# EAGLE library part DAC7541A (library EW_IC-ADC-DAC)
Low Cost 12-Bit CMOS DAC Four-Quadrant Multiplying
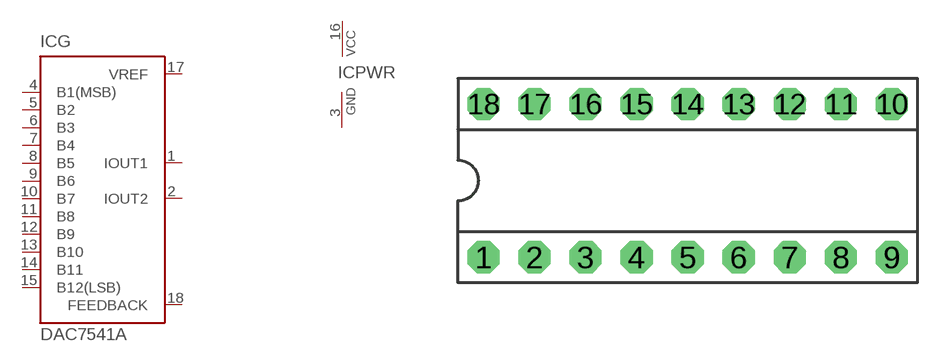
[diagram p72: symbol with the pads of DIL18; footprint DIL18]

Designator prefix IC; gates PWR=PWRN-1 G=DAC7541A

## DAC7541AP (MF: TEXAS INSTRUMENTS; MPN: DAC7541AJP; OC_FARNELL: 1212269; OC_NEWARK: 96K4483)  [DIL18]
1  G:IOUT1  out
2  G:IOUT2  out
3  PWR:GND  pwr
4  G:B1(MSB)  in
5  G:B2  in
6  G:B3  in
7  G:B4  in
8  G:B5  in
9  G:B6  in
10  G:B7  in
11  G:B8  in
12  G:B9  in
13  G:B10  in
14  G:B11  in
15  G:B12(LSB)  in
16  PWR:VCC  pwr
17  G:VREF  pwr
18  G:FEEDBACK  pas

## Footprint DIL18 (pad centres in mm)
Dual In Line
drill 0.813 pad 1.6 octagon: 1 -10.16,-3.81; 2 -7.62,-3.81; 3 -5.08,-3.81; 4 -2.54,-3.81; 5 0,-3.81; 6 2.54,-3.81; 7 5.08,-3.81; 8 7.62,-3.81; 9 10.16,-3.81; 10 10.16,3.81; 11 7.62,3.81; 12 5.08,3.81; 13 2.54,3.81; 14 0,3.81; 15 -2.54,3.81; 16 -5.08,3.81; 17 -7.62,3.81; 18 -10.16,3.81